# EAGLE library part 0934635206 (library Modular Jacks)
CONN MAGJACK 1PORT 100 BASE-T Manufacturer's datasheet <https://www.molex.com/pdm_docs/sd/934635206_sd.pdf>
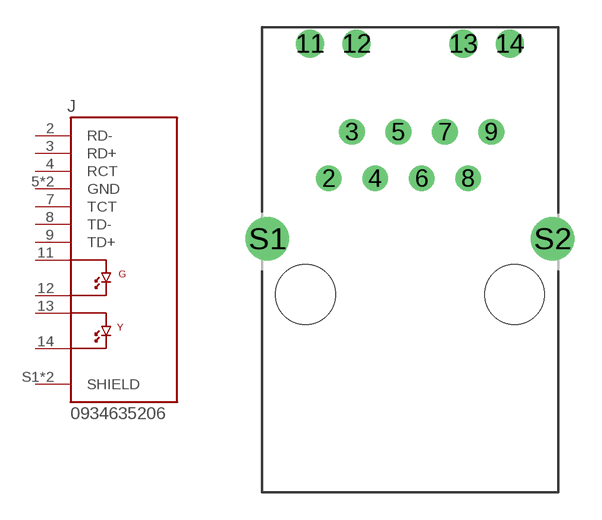
[diagram p3: symbol with the pads of 934635206; footprint 934635206]

Designator prefix J

## 0934635206 (CREATED_BY: PCBLayout.com; DIGIKEY_PARTNO: WM17614-ND; MANUFACTURER: Molex; MPN: 0934635206)  [934635206]
2  RD-  pas
3  RD+  pas
4  RCT  pas
5  GND  pas
6  GND  pas
7  TCT  pas
8  TD-  pas
9  TD+  pas
11  11  pas
12  12  pas
13  13  pas
14  14  pas
S1  SHIELD  pwr
S2  SHIELD  pwr

## Footprint 934635206 (pad centres in mm)
drill 0.89: 2 -4.445,6.35; 3 -3.175,8.89; 4 -1.905,6.35; 5 -0.635,8.89; 6 0.635,6.35; 7 1.905,8.89; 8 3.175,6.35; 9 4.445,8.89
drill 1.02: 11 -5.465,13.72; 12 -2.925,13.72; 13 2.915,13.72; 14 5.455,13.72
drill 1.58: S1 -7.795,3.05; S2 7.795,3.05
hole 3.26 at 5.715,0
hole 3.26 at -5.715,0